# Altium integrated library TI Data Converters Digital to Analog Converter.IntLib: 1533 symbols (part 27 of 99)
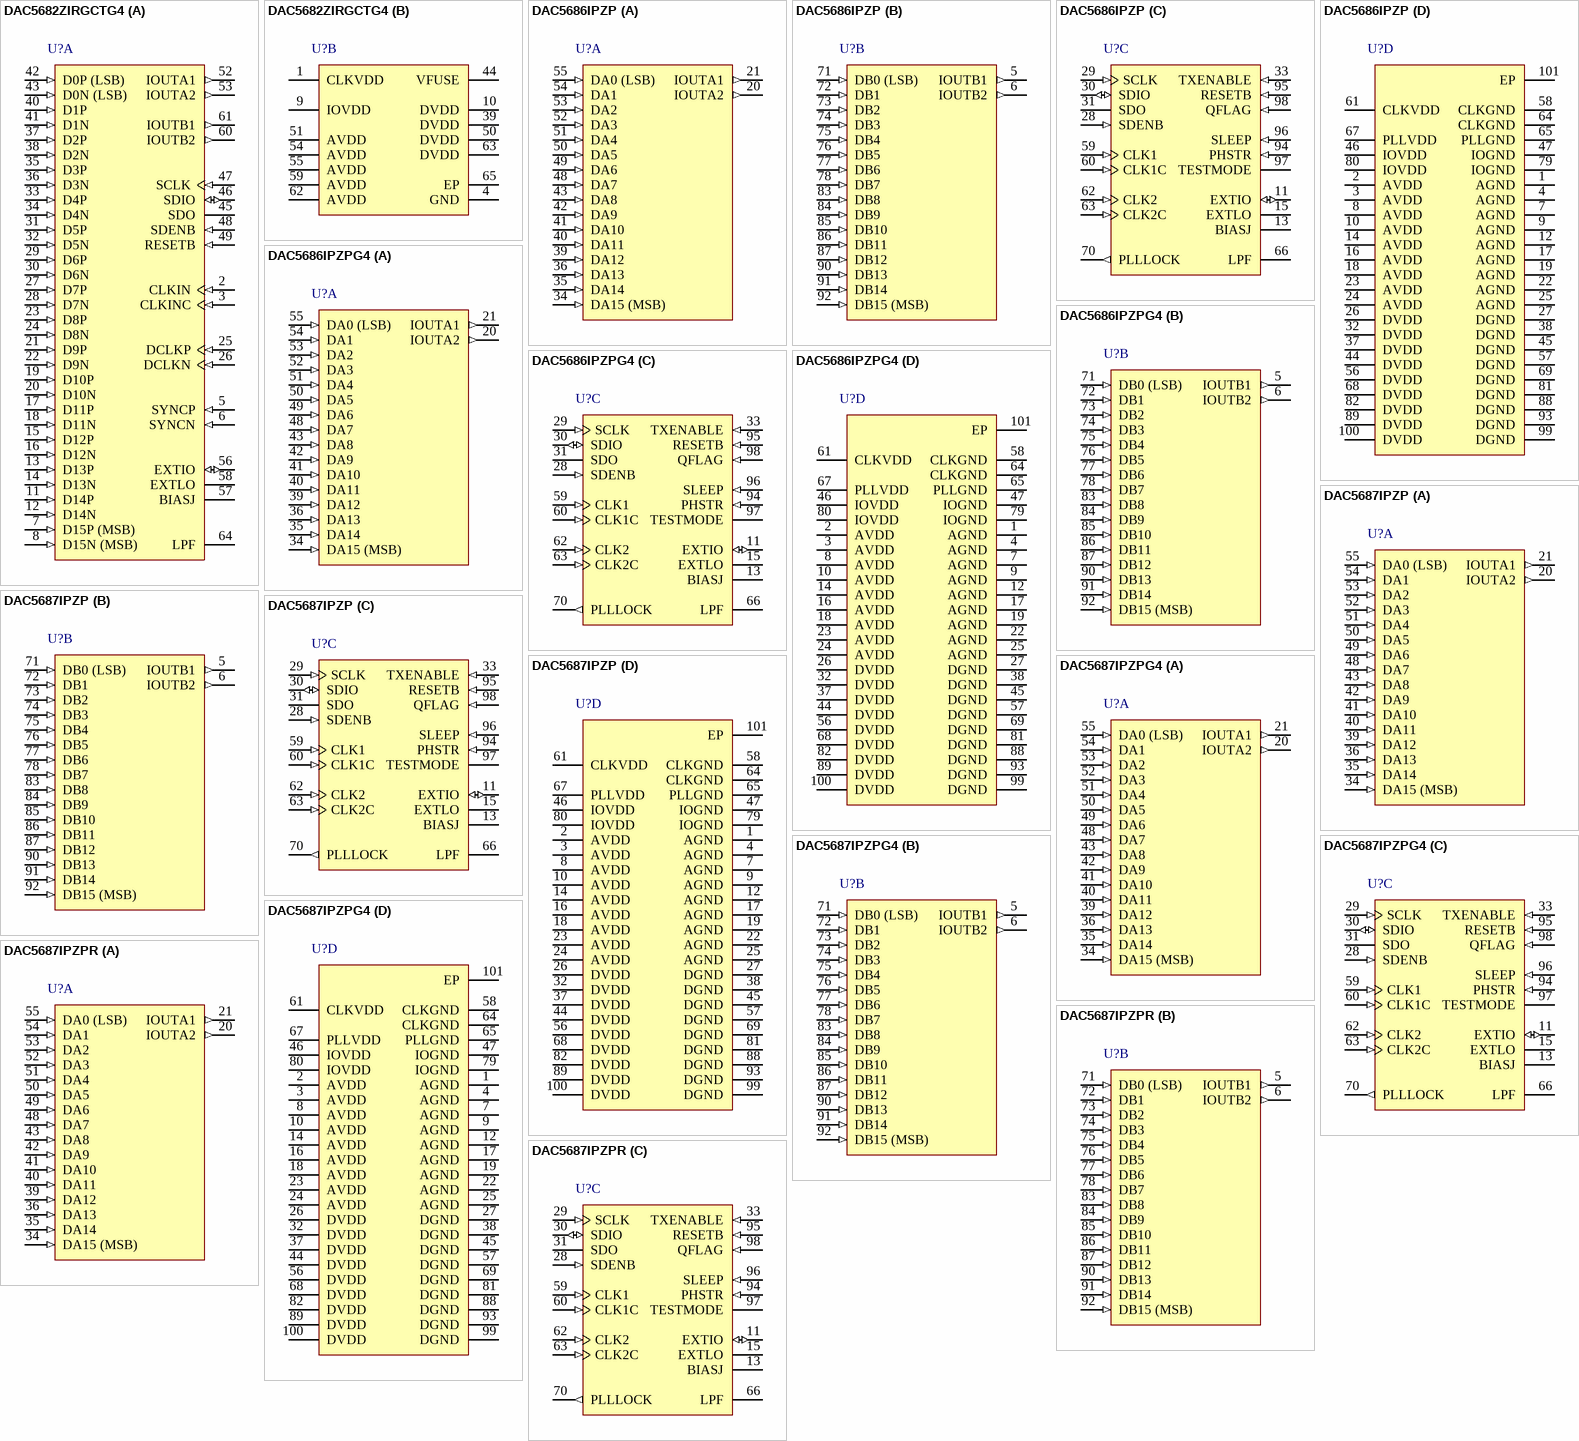
[diagram p99: symbols DAC5682ZIRGCTG4 to DAC5687IPZPR]

## DAC5687IPZPG4
designator U?
16-Bit, 500 MSPS 2 x- 8 x Interpolating Dual-Channel DAC, -40 to 85 degC, 100-pin QFP (PZP100), Green (RoHS & no Sb/Br); Manufacturer: Texas Instruments; PartNumber: DAC5687IPZPG4; DAC Channels: 2; Interface: Parallel CMOS; Power Consumption(Typ)(mW): 1410; Resolution(Bits): 16; Settling Time(us): 0.0104; SFDR(dB): 76; SNR(dB): 73; SubFamily: High Speed DAC (>10MSPS); DatasheetVersion: SLWS164E; PackageVersion: 4146929/C, 09/2011; PackageReference: PZP100-5445X5445TP; PackageDescription: 100-Lead, Plastic Flat Pack, Body Size 14 x 14 mm, Pitch 0.5 mm; Supplier 1: Digi-Key; Supplier Part Number 1: DAC5687IPZPG4-ND; Supplier 2: Newark; Supplier Part Number 2: 33K5127; Supplier 3: Mouser; Supplier Part Number 3: 595-DAC5687IPZPG4; Eco-Plan: Green (RoHS & no Sb/Br); Mounting Technology: Surface Mount; Code_JEDEC: MS-026; ComponentLink1Description: Manufacturer URL; ComponentLink1URL: http://www.ti.com/; ComponentLink2Description: Datasheet; ComponentLink2URL: http://www.ti.com/general/docs/lit/getliterature.tsp?genericPartNumber=DAC5687&fileType=pdf; ComponentLink3Description: Package Specification; ComponentLink3URL: http://www.ti.com/litv/pdf/mpqf053b
footprint TI-PZP100-5445X5445TP_N (QFP, 100-Leads, Body 14x14mm, Pitch 0.5mm, Thermal Pad 5.445x5.445mm, IPC Medium Density)
footprint TI-PZP100-5445X5445TP_L (QFP, 100-Leads, Body 14x14mm, Pitch 0.5mm, Thermal Pad 5.445x5.445mm, IPC High Density)
footprint TI-PZP100-5445X5445TP_M (QFP, 100-Leads, Body 14x14mm, Pitch 0.5mm, Thermal Pad 5.445x5.445mm, IPC Low Density)
part A pins: 20 IOUTA2 (out) "A-channel DAC complementary current output. Full scale when all input bits are set to 0", 21 IOUTA1 (out) "A-channel DAC current output. Full scale when all input bits are set to 1", 34 DA15 (MSB) (in) "A-channel data bits 0 through 15. DA15 is most significant data bit (MSB). DA0 is least significant data bit (LSB). Internal pulldown", 35 DA14 (in) "A-channel data bits 0 through 15. DA15 is most significant data bit (MSB). DA0 is least significant data bit (LSB). Internal pulldown", 36 DA13 (in) "A-channel data bits 0 through 15. DA15 is most significant data bit (MSB). DA0 is least significant data bit (LSB). Internal pulldown", 39 DA12 (in) "A-channel data bits 0 through 15. DA15 is most significant data bit (MSB). DA0 is least significant data bit (LSB). Internal pulldown", 40 DA11 (in) "A-channel data bits 0 through 15. DA15 is most significant data bit (MSB). DA0 is least significant data bit (LSB). Internal pulldown", 41 DA10 (in) "A-channel data bits 0 through 15. DA15 is most significant data bit (MSB). DA0 is least significant data bit (LSB). Internal pulldown", 42 DA9 (in) "A-channel data bits 0 through 15. DA15 is most significant data bit (MSB). DA0 is least significant data bit (LSB). Internal pulldown", 43 DA8 (in) "A-channel data bits 0 through 15. DA15 is most significant data bit (MSB). DA0 is least significant data bit (LSB). Internal pulldown", 48 DA7 (in) "A-channel data bits 0 through 15. DA15 is most significant data bit (MSB). DA0 is least significant data bit (LSB). Internal pulldown", 49 DA6 (in) "A-channel data bits 0 through 15. DA15 is most significant data bit (MSB). DA0 is least significant data bit (LSB). Internal pulldown", 50 DA5 (in) "A-channel data bits 0 through 15. DA15 is most significant data bit (MSB). DA0 is least significant data bit (LSB). Internal pulldown", 51 DA4 (in) "A-channel data bits 0 through 15. DA15 is most significant data bit (MSB). DA0 is least significant data bit (LSB). Internal pulldown", 52 DA3 (in) "A-channel data bits 0 through 15. DA15 is most significant data bit (MSB). DA0 is least significant data bit (LSB). Internal pulldown", 53 DA2 (in) "A-channel data bits 0 through 15. DA15 is most significant data bit (MSB). DA0 is least significant data bit (LSB). Internal pulldown", 54 DA1 (in) "A-channel data bits 0 through 15. DA15 is most significant data bit (MSB). DA0 is least significant data bit (LSB). Internal pulldown", 55 DA0 (LSB) (in) "A-channel data bits 0 through 15. DA15 is most significant data bit (MSB). DA0 is least significant data bit (LSB). Internal pulldown"
part B pins: 5 IOUTB1 (out) "B-channel DAC current output. Full scale when all input bits are set to 1", 6 IOUTB2 (out) "B-channel DAC complementary current output. Full scale when all input bits are set to 0", 71 DB0 (LSB) (in) "B-channel data bits 0 through 15. DB15 is most significant data bit (MSB). DB0 is least significant data bit (LSB). Internal pulldown Note: The order of the B data bus can be reversed by register rev_bbus.", 72 DB1 (in) "B-channel data bits 0 through 15. DB15 is most significant data bit (MSB). DB0 is least significant data bit (LSB). Internal pulldown Note: The order of the B data bus can be reversed by register rev_bbus.", 73 DB2 (in) "B-channel data bits 0 through 15. DB15 is most significant data bit (MSB). DB0 is least significant data bit (LSB). Internal pulldown Note: The order of the B data bus can be reversed by register rev_bbus.", 74 DB3 (in) "B-channel data bits 0 through 15. DB15 is most significant data bit (MSB). DB0 is least significant data bit (LSB). Internal pulldown Note: The order of the B data bus can be reversed by register rev_bbus.", 75 DB4 (in) "B-channel data bits 0 through 15. DB15 is most significant data bit (MSB). DB0 is least significant data bit (LSB). Internal pulldown Note: The order of the B data bus can be reversed by register rev_bbus.", 76 DB5 (in) "B-channel data bits 0 through 15. DB15 is most significant data bit (MSB). DB0 is least significant data bit (LSB). Internal pulldown Note: The order of the B data bus can be reversed by register rev_bbus.", 77 DB6 (in) "B-channel data bits 0 through 15. DB15 is most significant data bit (MSB). DB0 is least significant data bit (LSB). Internal pulldown Note: The order of the B data bus can be reversed by register rev_bbus.", 78 DB7 (in) "B-channel data bits 0 through 15. DB15 is most significant data bit (MSB). DB0 is least significant data bit (LSB). Internal pulldown Note: The order of the B data bus can be reversed by register rev_bbus.", 83 DB8 (in) "B-channel data bits 0 through 15. DB15 is most significant data bit (MSB). DB0 is least significant data bit (LSB). Internal pulldown Note: The order of the B data bus can be reversed by register rev_bbus.", 84 DB9 (in) "B-channel data bits 0 through 15. DB15 is most significant data bit (MSB). DB0 is least significant data bit (LSB). Internal pulldown Note: The order of the B data bus can be reversed by register rev_bbus.", 85 DB10 (in) "B-channel data bits 0 through 15. DB15 is most significant data bit (MSB). DB0 is least significant data bit (LSB). Internal pulldown Note: The order of the B data bus can be reversed by register rev_bbus.", 86 DB11 (in) "B-channel data bits 0 through 15. DB15 is most significant data bit (MSB). DB0 is least significant data bit (LSB). Internal pulldown Note: The order of the B data bus can be reversed by register rev_bbus.", 87 DB12 (in) "B-channel data bits 0 through 15. DB15 is most significant data bit (MSB). DB0 is least significant data bit (LSB). Internal pulldown Note: The order of the B data bus can be reversed by register rev_bbus.", 90 DB13 (in) "B-channel data bits 0 through 15. DB15 is most significant data bit (MSB). DB0 is least significant data bit (LSB). Internal pulldown Note: The order of the B data bus can be reversed by register rev_bbus.", 91 DB14 (in) "B-channel data bits 0 through 15. DB15 is most significant data bit (MSB). DB0 is least significant data bit (LSB). Internal pulldown Note: The order of the B data bus can be reversed by register rev_bbus.", 92 DB15 (MSB) (in) "B-channel data bits 0 through 15. DB15 is most significant data bit (MSB). DB0 is least significant data bit (LSB). Internal pulldown Note: The order of the B data bus can be reversed by register rev_bbus."
part C pins: 11 EXTIO (io) "Used as external reference input when internal reference is disabled (i.e., EXTLO connected to AVDD). Used as internal reference output when EXTLO = AGND, requires a 0.1-uF decoupling capacitor to AGND when used as reference (See Datasheet)", 13 BIASJ "Full-scale output current bias", 15 EXTLO "Internal reference ground. Connect to AVDD to disable the internal reference", 28 SDENB (in) "Active-low serial data enable, always an input to the DAC5686. Internal pulldown", 29 SCLK (in) "Serial interface clock. Internal pulldown", 30 SDIO (io) "Bidirectional serial-port data in the three-pin serial interface mode. Input-only serial data in the four-pin serial interface mode. Internal pulldown", 31 SDO (hiz) "High-impedance state (the pin is not used) in the three-pin serial interface mode. Serial-port output data in the four-pin serial interface mode.", 33 TXENABLE (in) "TxENABLE is used in interleaved mode. The rising edge of TxENABLE synchronizes the data of channels A and B. The first data after the rising edge of TxENABLE is treated as A data, while the next data is treated as B data and (See Datasheet)", 59 CLK1 (in) "External clock input; data clock input", 60 CLK1C (in) "Complementary external clock input; data clock input", 62 CLK2 (in) "External clock input; sample clock for the DAC (optional if PLL disabled)", 63 CLK2C (in) "Complementary external clock input; sample clock for the DAC (optional if PLL disabled)", 66 LPF "PLL loop filter connection. Can be left open or connected to GND if PLL is not used (PLLVDD = 0 V).", 70 PLLLOCK (out) "PLL lock status bit. In PLL clock mode, PLLLOCK is high when PLL is locked to the input clock. In external clock mode, PLLLOCK outputs the input rate clock.", 94 PHSTR (in) "The PHSTR pin has two functions. When the sync_phstr register is 0, a high on the PHSTR pin resets the NCO phase accumulator. When the sync_phstr register is 1, a PHSTR pin low-to-high transition sets the divided clock phase (See Datasheet)", 95 RESETB (in) "Resets the chip when low. Internal pullup", 96 SLEEP (in) "Asynchronous hardware power-down input. Active high. Internal pulldown", 97 TESTMODE "TESTMODE is DGND for the user", 98 QFLAG (in) "Used in the interleaved data input mode: When the qflag register bit is 1, the QFLAG pin is used as an input to identify the interleaved data sequence. QFLAG high identifies the data as channel B. Pin can be left open when (See Datasheet)"
part D pins: 1 AGND (power) "Analog ground return", 2 AVDD (power) "Analog supply voltage", 3 AVDD (power) "Analog supply voltage", 4 AGND (power) "Analog ground return", 7 AGND (power) "Analog ground return", 8 AVDD (power) "Analog supply voltage", 9 AGND (power) "Analog ground return", 10 AVDD (power) "Analog supply voltage", 12 AGND (power) "Analog ground return", 14 AVDD (power) "Analog supply voltage", 16 AVDD (power) "Analog supply voltage", 17 AGND (power) "Analog ground return", 18 AVDD (power) "Analog supply voltage", 19 AGND (power) "Analog ground return", 22 AGND (power) "Analog ground return", 23 AVDD (power) "Analog supply voltage", 24 AVDD (power) "Analog supply voltage", 25 AGND (power) "Analog ground return", 26 DVDD (power) "Digital supply voltage", 27 DGND (power) "Digital ground return", 32 DVDD (power) "Digital supply voltage", 37 DVDD (power) "Digital supply voltage", 38 DGND (power) "Digital ground return", 44 DVDD (power) "Digital supply voltage", 45 DGND (power) "Digital ground return", 46 IOVDD (power) "Digital I/O supply voltage", 47 IOGND (power) "Digital I/O ground return", 56 DVDD (power) "Digital supply voltage", 57 DGND (power) "Digital ground return", 58 CLKGND (power) "Ground return for internal clock buffer", 61 CLKVDD (power) "Internal clock buffer supply voltage", 64 CLKGND (power) "Ground return for internal clock buffer", 65 PLLGND (power) "Ground return for internal PLL", 67 PLLVDD (power) "PLL supply voltage. When PLLVDD is 0 V, the PLL is disabled.", 68 DVDD (power) "Digital supply voltage", 69 DGND (power) "Digital ground return", 79 IOGND (power) "Digital I/O ground return", 80 IOVDD (power) "Digital I/O supply voltage", 81 DGND (power) "Digital ground return", 82 DVDD (power) "Digital supply voltage", 88 DGND (power) "Digital ground return", 89 DVDD (power) "Digital supply voltage", 93 DGND (power) "Digital ground return", 99 DGND (power) "Digital ground return", 100 DVDD (power) "Digital supply voltage", 101 EP

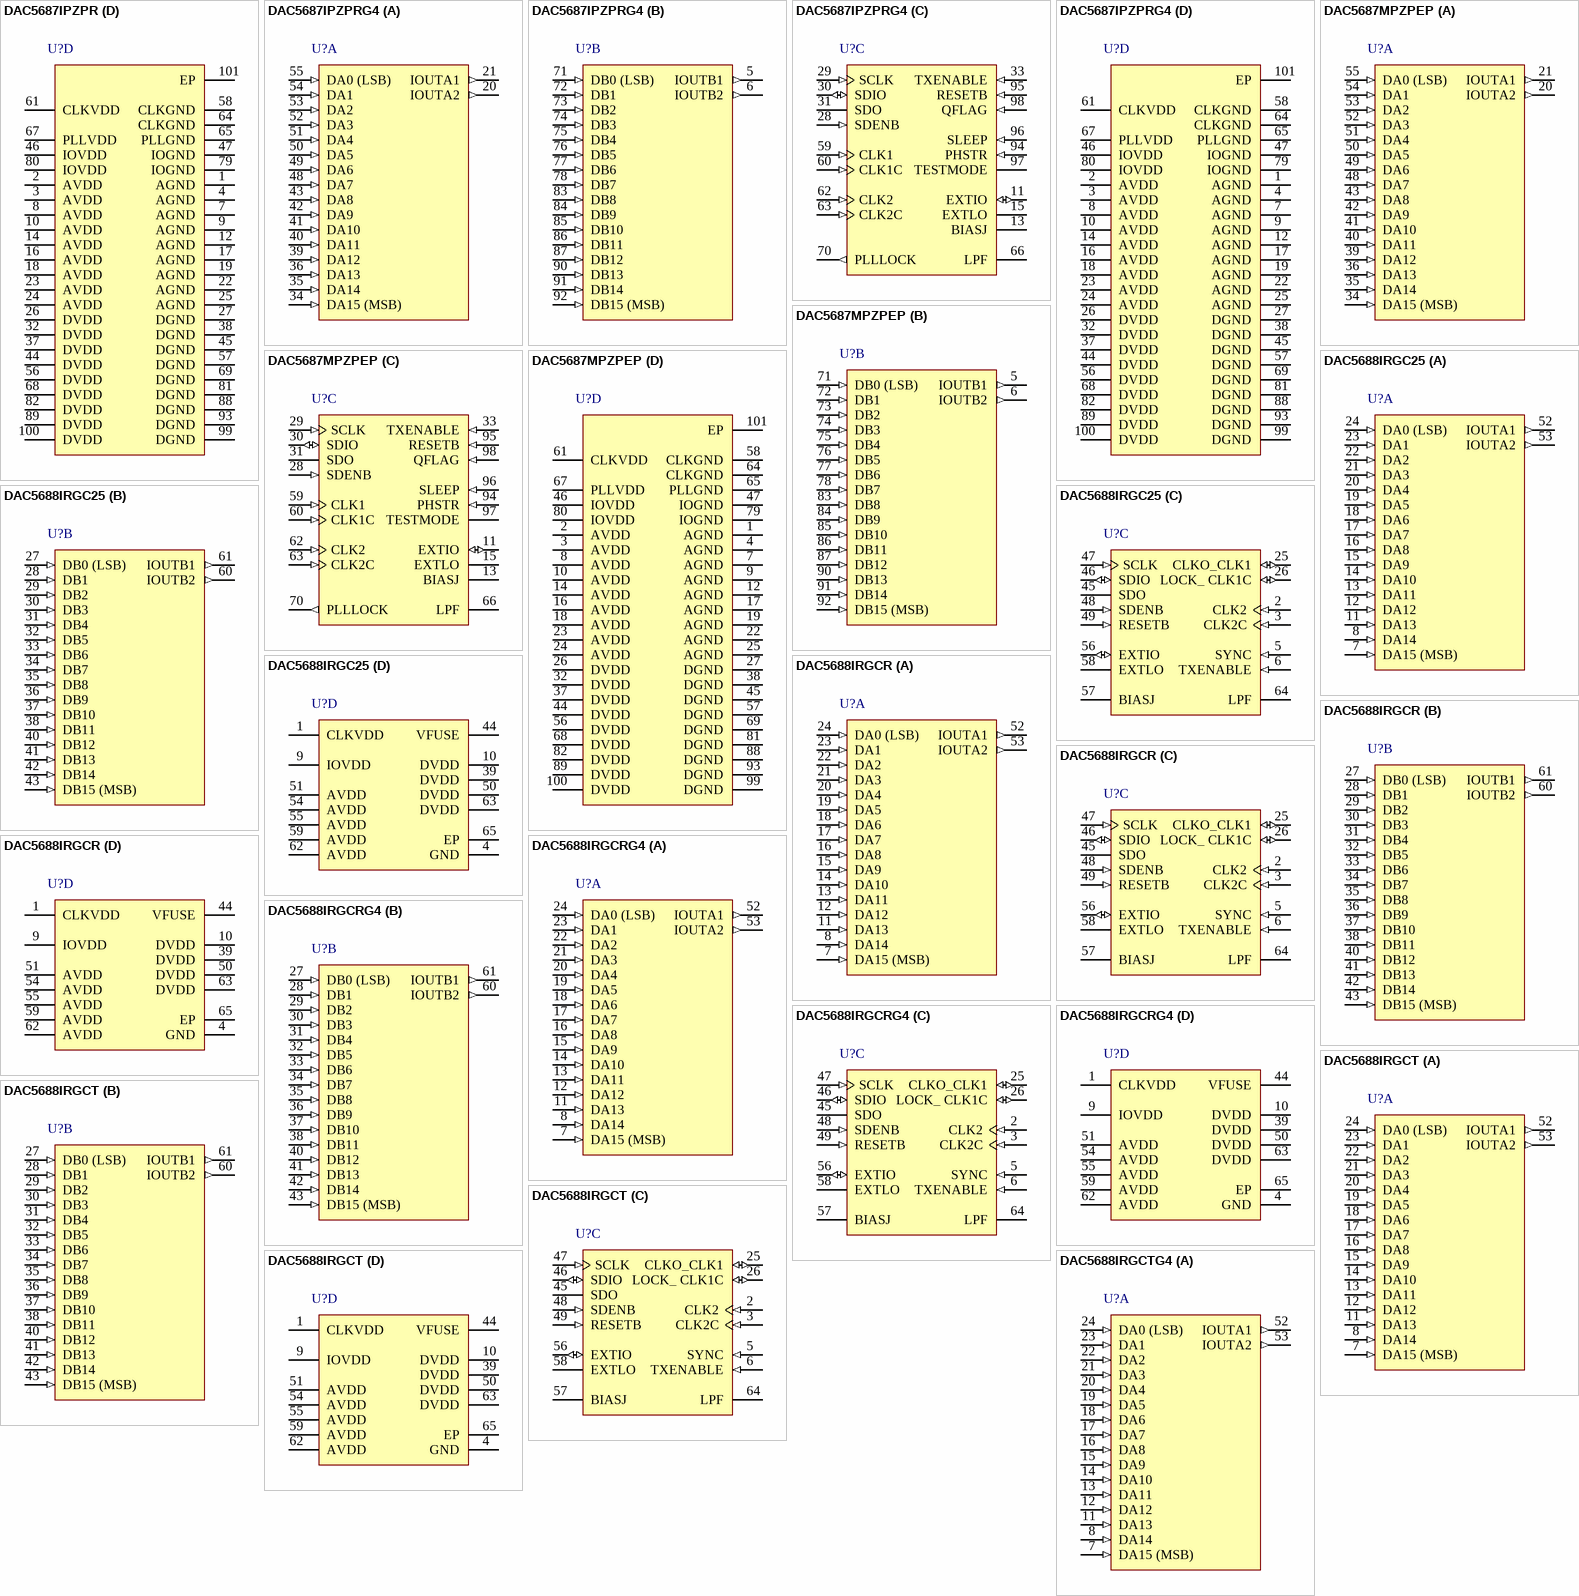
[diagram p21: symbols DAC5687IPZPR to DAC5688IRGCTG4]

## DAC5687IPZPR
designator U?
16-Bit, 500 MSPS 2 x- 8 x Interpolating Dual-Channel DAC, -40 to 85 degC, 100-pin QFP (PZP100), Green (RoHS & no Sb/Br); Manufacturer: Texas Instruments; PartNumber: DAC5687IPZPR; DAC Channels: 2; Interface: Parallel CMOS; Power Consumption(Typ)(mW): 1410; Resolution(Bits): 16; Settling Time(us): 0.0104; SFDR(dB): 76; SNR(dB): 73; SubFamily: High Speed DAC (>10MSPS); DatasheetVersion: SLWS164E; PackageVersion: 4146929/C, 09/2011; PackageReference: PZP100-5445X5445TP; PackageDescription: 100-Lead, Plastic Flat Pack, Body Size 14 x 14 mm, Pitch 0.5 mm; Supplier 1: Digi-Key; Supplier Part Number 1: DAC5687IPZPR-ND; Supplier 2: Newark; Supplier Part Number 2: 73K7712; Supplier 3: Mouser; Supplier Part Number 3: 595-DAC5687IPZPR; Eco-Plan: Green (RoHS & no Sb/Br); Mounting Technology: Surface Mount; Code_JEDEC: MS-026; ComponentLink1Description: Manufacturer URL; ComponentLink1URL: http://www.ti.com/; ComponentLink2Description: Datasheet; ComponentLink2URL: http://www.ti.com/general/docs/lit/getliterature.tsp?genericPartNumber=DAC5687&fileType=pdf; ComponentLink3Description: Package Specification; ComponentLink3URL: http://www.ti.com/litv/pdf/mpqf053b
footprint TI-PZP100-5445X5445TP_N (QFP, 100-Leads, Body 14x14mm, Pitch 0.5mm, Thermal Pad 5.445x5.445mm, IPC Medium Density)
footprint TI-PZP100-5445X5445TP_L (QFP, 100-Leads, Body 14x14mm, Pitch 0.5mm, Thermal Pad 5.445x5.445mm, IPC High Density)
footprint TI-PZP100-5445X5445TP_M (QFP, 100-Leads, Body 14x14mm, Pitch 0.5mm, Thermal Pad 5.445x5.445mm, IPC Low Density)
part A pins: 20 IOUTA2 (out) "A-channel DAC complementary current output. Full scale when all input bits are set to 0", 21 IOUTA1 (out) "A-channel DAC current output. Full scale when all input bits are set to 1", 34 DA15 (MSB) (in) "A-channel data bits 0 through 15. DA15 is most significant data bit (MSB). DA0 is least significant data bit (LSB). Internal pulldown", 35 DA14 (in) "A-channel data bits 0 through 15. DA15 is most significant data bit (MSB). DA0 is least significant data bit (LSB). Internal pulldown", 36 DA13 (in) "A-channel data bits 0 through 15. DA15 is most significant data bit (MSB). DA0 is least significant data bit (LSB). Internal pulldown", 39 DA12 (in) "A-channel data bits 0 through 15. DA15 is most significant data bit (MSB). DA0 is least significant data bit (LSB). Internal pulldown", 40 DA11 (in) "A-channel data bits 0 through 15. DA15 is most significant data bit (MSB). DA0 is least significant data bit (LSB). Internal pulldown", 41 DA10 (in) "A-channel data bits 0 through 15. DA15 is most significant data bit (MSB). DA0 is least significant data bit (LSB). Internal pulldown", 42 DA9 (in) "A-channel data bits 0 through 15. DA15 is most significant data bit (MSB). DA0 is least significant data bit (LSB). Internal pulldown", 43 DA8 (in) "A-channel data bits 0 through 15. DA15 is most significant data bit (MSB). DA0 is least significant data bit (LSB). Internal pulldown", 48 DA7 (in) "A-channel data bits 0 through 15. DA15 is most significant data bit (MSB). DA0 is least significant data bit (LSB). Internal pulldown", 49 DA6 (in) "A-channel data bits 0 through 15. DA15 is most significant data bit (MSB). DA0 is least significant data bit (LSB). Internal pulldown", 50 DA5 (in) "A-channel data bits 0 through 15. DA15 is most significant data bit (MSB). DA0 is least significant data bit (LSB). Internal pulldown", 51 DA4 (in) "A-channel data bits 0 through 15. DA15 is most significant data bit (MSB). DA0 is least significant data bit (LSB). Internal pulldown", 52 DA3 (in) "A-channel data bits 0 through 15. DA15 is most significant data bit (MSB). DA0 is least significant data bit (LSB). Internal pulldown", 53 DA2 (in) "A-channel data bits 0 through 15. DA15 is most significant data bit (MSB). DA0 is least significant data bit (LSB). Internal pulldown", 54 DA1 (in) "A-channel data bits 0 through 15. DA15 is most significant data bit (MSB). DA0 is least significant data bit (LSB). Internal pulldown", 55 DA0 (LSB) (in) "A-channel data bits 0 through 15. DA15 is most significant data bit (MSB). DA0 is least significant data bit (LSB). Internal pulldown"
part B pins: 5 IOUTB1 (out) "B-channel DAC current output. Full scale when all input bits are set to 1", 6 IOUTB2 (out) "B-channel DAC complementary current output. Full scale when all input bits are set to 0", 71 DB0 (LSB) (in) "B-channel data bits 0 through 15. DB15 is most significant data bit (MSB). DB0 is least significant data bit (LSB). Internal pulldown Note: The order of the B data bus can be reversed by register rev_bbus.", 72 DB1 (in) "B-channel data bits 0 through 15. DB15 is most significant data bit (MSB). DB0 is least significant data bit (LSB). Internal pulldown Note: The order of the B data bus can be reversed by register rev_bbus.", 73 DB2 (in) "B-channel data bits 0 through 15. DB15 is most significant data bit (MSB). DB0 is least significant data bit (LSB). Internal pulldown Note: The order of the B data bus can be reversed by register rev_bbus.", 74 DB3 (in) "B-channel data bits 0 through 15. DB15 is most significant data bit (MSB). DB0 is least significant data bit (LSB). Internal pulldown Note: The order of the B data bus can be reversed by register rev_bbus.", 75 DB4 (in) "B-channel data bits 0 through 15. DB15 is most significant data bit (MSB). DB0 is least significant data bit (LSB). Internal pulldown Note: The order of the B data bus can be reversed by register rev_bbus.", 76 DB5 (in) "B-channel data bits 0 through 15. DB15 is most significant data bit (MSB). DB0 is least significant data bit (LSB). Internal pulldown Note: The order of the B data bus can be reversed by register rev_bbus.", 77 DB6 (in) "B-channel data bits 0 through 15. DB15 is most significant data bit (MSB). DB0 is least significant data bit (LSB). Internal pulldown Note: The order of the B data bus can be reversed by register rev_bbus.", 78 DB7 (in) "B-channel data bits 0 through 15. DB15 is most significant data bit (MSB). DB0 is least significant data bit (LSB). Internal pulldown Note: The order of the B data bus can be reversed by register rev_bbus.", 83 DB8 (in) "B-channel data bits 0 through 15. DB15 is most significant data bit (MSB). DB0 is least significant data bit (LSB). Internal pulldown Note: The order of the B data bus can be reversed by register rev_bbus.", 84 DB9 (in) "B-channel data bits 0 through 15. DB15 is most significant data bit (MSB). DB0 is least significant data bit (LSB). Internal pulldown Note: The order of the B data bus can be reversed by register rev_bbus.", 85 DB10 (in) "B-channel data bits 0 through 15. DB15 is most significant data bit (MSB). DB0 is least significant data bit (LSB). Internal pulldown Note: The order of the B data bus can be reversed by register rev_bbus.", 86 DB11 (in) "B-channel data bits 0 through 15. DB15 is most significant data bit (MSB). DB0 is least significant data bit (LSB). Internal pulldown Note: The order of the B data bus can be reversed by register rev_bbus.", 87 DB12 (in) "B-channel data bits 0 through 15. DB15 is most significant data bit (MSB). DB0 is least significant data bit (LSB). Internal pulldown Note: The order of the B data bus can be reversed by register rev_bbus.", 90 DB13 (in) "B-channel data bits 0 through 15. DB15 is most significant data bit (MSB). DB0 is least significant data bit (LSB). Internal pulldown Note: The order of the B data bus can be reversed by register rev_bbus.", 91 DB14 (in) "B-channel data bits 0 through 15. DB15 is most significant data bit (MSB). DB0 is least significant data bit (LSB). Internal pulldown Note: The order of the B data bus can be reversed by register rev_bbus.", 92 DB15 (MSB) (in) "B-channel data bits 0 through 15. DB15 is most significant data bit (MSB). DB0 is least significant data bit (LSB). Internal pulldown Note: The order of the B data bus can be reversed by register rev_bbus."
part C pins: 11 EXTIO (io) "Used as external reference input when internal reference is disabled (i.e., EXTLO connected to AVDD). Used as internal reference output when EXTLO = AGND, requires a 0.1-uF decoupling capacitor to AGND when used as reference (See Datasheet)", 13 BIASJ "Full-scale output current bias", 15 EXTLO "Internal reference ground. Connect to AVDD to disable the internal reference", 28 SDENB (in) "Active-low serial data enable, always an input to the DAC5686. Internal pulldown", 29 SCLK (in) "Serial interface clock. Internal pulldown", 30 SDIO (io) "Bidirectional serial-port data in the three-pin serial interface mode. Input-only serial data in the four-pin serial interface mode. Internal pulldown", 31 SDO (hiz) "High-impedance state (the pin is not used) in the three-pin serial interface mode. Serial-port output data in the four-pin serial interface mode.", 33 TXENABLE (in) "TxENABLE is used in interleaved mode. The rising edge of TxENABLE synchronizes the data of channels A and B. The first data after the rising edge of TxENABLE is treated as A data, while the next data is treated as B data and (See Datasheet)", 59 CLK1 (in) "External clock input; data clock input", 60 CLK1C (in) "Complementary external clock input; data clock input", 62 CLK2 (in) "External clock input; sample clock for the DAC (optional if PLL disabled)", 63 CLK2C (in) "Complementary external clock input; sample clock for the DAC (optional if PLL disabled)", 66 LPF "PLL loop filter connection. Can be left open or connected to GND if PLL is not used (PLLVDD = 0 V).", 70 PLLLOCK (out) "PLL lock status bit. In PLL clock mode, PLLLOCK is high when PLL is locked to the input clock. In external clock mode, PLLLOCK outputs the input rate clock.", 94 PHSTR (in) "The PHSTR pin has two functions. When the sync_phstr register is 0, a high on the PHSTR pin resets the NCO phase accumulator. When the sync_phstr register is 1, a PHSTR pin low-to-high transition sets the divided clock phase (See Datasheet)", 95 RESETB (in) "Resets the chip when low. Internal pullup", 96 SLEEP (in) "Asynchronous hardware power-down input. Active high. Internal pulldown", 97 TESTMODE "TESTMODE is DGND for the user", 98 QFLAG (in) "Used in the interleaved data input mode: When the qflag register bit is 1, the QFLAG pin is used as an input to identify the interleaved data sequence. QFLAG high identifies the data as channel B. Pin can be left open when (See Datasheet)"
part D pins: 1 AGND (power) "Analog ground return", 2 AVDD (power) "Analog supply voltage", 3 AVDD (power) "Analog supply voltage", 4 AGND (power) "Analog ground return", 7 AGND (power) "Analog ground return", 8 AVDD (power) "Analog supply voltage", 9 AGND (power) "Analog ground return", 10 AVDD (power) "Analog supply voltage", 12 AGND (power) "Analog ground return", 14 AVDD (power) "Analog supply voltage", 16 AVDD (power) "Analog supply voltage", 17 AGND (power) "Analog ground return", 18 AVDD (power) "Analog supply voltage", 19 AGND (power) "Analog ground return", 22 AGND (power) "Analog ground return", 23 AVDD (power) "Analog supply voltage", 24 AVDD (power) "Analog supply voltage", 25 AGND (power) "Analog ground return", 26 DVDD (power) "Digital supply voltage", 27 DGND (power) "Digital ground return", 32 DVDD (power) "Digital supply voltage", 37 DVDD (power) "Digital supply voltage", 38 DGND (power) "Digital ground return", 44 DVDD (power) "Digital supply voltage", 45 DGND (power) "Digital ground return", 46 IOVDD (power) "Digital I/O supply voltage", 47 IOGND (power) "Digital I/O ground return", 56 DVDD (power) "Digital supply voltage", 57 DGND (power) "Digital ground return", 58 CLKGND (power) "Ground return for internal clock buffer", 61 CLKVDD (power) "Internal clock buffer supply voltage", 64 CLKGND (power) "Ground return for internal clock buffer", 65 PLLGND (power) "Ground return for internal PLL", 67 PLLVDD (power) "PLL supply voltage. When PLLVDD is 0 V, the PLL is disabled.", 68 DVDD (power) "Digital supply voltage", 69 DGND (power) "Digital ground return", 79 IOGND (power) "Digital I/O ground return", 80 IOVDD (power) "Digital I/O supply voltage", 81 DGND (power) "Digital ground return", 82 DVDD (power) "Digital supply voltage", 88 DGND (power) "Digital ground return", 89 DVDD (power) "Digital supply voltage", 93 DGND (power) "Digital ground return", 99 DGND (power) "Digital ground return", 100 DVDD (power) "Digital supply voltage", 101 EP

## DAC5687IPZPRG4
designator U?
16-Bit, 500 MSPS 2 x- 8 x Interpolating Dual-Channel DAC, -40 to 85 degC, 100-pin QFP (PZP100), Green (RoHS & no Sb/Br); Manufacturer: Texas Instruments; PartNumber: DAC5687IPZPRG4; DAC Channels: 2; Interface: Parallel CMOS; Power Consumption(Typ)(mW): 1410; Resolution(Bits): 16; Settling Time(us): 0.0104; SFDR(dB): 76; SNR(dB): 73; SubFamily: High Speed DAC (>10MSPS); DatasheetVersion: SLWS164E; PackageVersion: 4146929/C, 09/2011; PackageReference: PZP100-5445X5445TP; PackageDescription: 100-Lead, Plastic Flat Pack, Body Size 14 x 14 mm, Pitch 0.5 mm; Supplier 1: Digi-Key; Supplier Part Number 1: DAC5687IPZPRG4-ND; Supplier 2: Newark; Supplier Part Number 2: 80K1418; Supplier 3: Mouser; Supplier Part Number 3: 595-DAC5687IPZPRG4; Eco-Plan: Green (RoHS & no Sb/Br); Mounting Technology: Surface Mount; Code_JEDEC: MS-026; ComponentLink1Description: Manufacturer URL; ComponentLink1URL: http://www.ti.com/; ComponentLink2Description: Datasheet; ComponentLink2URL: http://www.ti.com/general/docs/lit/getliterature.tsp?genericPartNumber=DAC5687&fileType=pdf; ComponentLink3Description: Package Specification; ComponentLink3URL: http://www.ti.com/litv/pdf/mpqf053b
footprint TI-PZP100-5445X5445TP_N (QFP, 100-Leads, Body 14x14mm, Pitch 0.5mm, Thermal Pad 5.445x5.445mm, IPC Medium Density)
footprint TI-PZP100-5445X5445TP_L (QFP, 100-Leads, Body 14x14mm, Pitch 0.5mm, Thermal Pad 5.445x5.445mm, IPC High Density)
footprint TI-PZP100-5445X5445TP_M (QFP, 100-Leads, Body 14x14mm, Pitch 0.5mm, Thermal Pad 5.445x5.445mm, IPC Low Density)
part A pins: 20 IOUTA2 (out) "A-channel DAC complementary current output. Full scale when all input bits are set to 0", 21 IOUTA1 (out) "A-channel DAC current output. Full scale when all input bits are set to 1", 34 DA15 (MSB) (in) "A-channel data bits 0 through 15. DA15 is most significant data bit (MSB). DA0 is least significant data bit (LSB). Internal pulldown", 35 DA14 (in) "A-channel data bits 0 through 15. DA15 is most significant data bit (MSB). DA0 is least significant data bit (LSB). Internal pulldown", 36 DA13 (in) "A-channel data bits 0 through 15. DA15 is most significant data bit (MSB). DA0 is least significant data bit (LSB). Internal pulldown", 39 DA12 (in) "A-channel data bits 0 through 15. DA15 is most significant data bit (MSB). DA0 is least significant data bit (LSB). Internal pulldown", 40 DA11 (in) "A-channel data bits 0 through 15. DA15 is most significant data bit (MSB). DA0 is least significant data bit (LSB). Internal pulldown", 41 DA10 (in) "A-channel data bits 0 through 15. DA15 is most significant data bit (MSB). DA0 is least significant data bit (LSB). Internal pulldown", 42 DA9 (in) "A-channel data bits 0 through 15. DA15 is most significant data bit (MSB). DA0 is least significant data bit (LSB). Internal pulldown", 43 DA8 (in) "A-channel data bits 0 through 15. DA15 is most significant data bit (MSB). DA0 is least significant data bit (LSB). Internal pulldown", 48 DA7 (in) "A-channel data bits 0 through 15. DA15 is most significant data bit (MSB). DA0 is least significant data bit (LSB). Internal pulldown", 49 DA6 (in) "A-channel data bits 0 through 15. DA15 is most significant data bit (MSB). DA0 is least significant data bit (LSB). Internal pulldown", 50 DA5 (in) "A-channel data bits 0 through 15. DA15 is most significant data bit (MSB). DA0 is least significant data bit (LSB). Internal pulldown", 51 DA4 (in) "A-channel data bits 0 through 15. DA15 is most significant data bit (MSB). DA0 is least significant data bit (LSB). Internal pulldown", 52 DA3 (in) "A-channel data bits 0 through 15. DA15 is most significant data bit (MSB). DA0 is least significant data bit (LSB). Internal pulldown", 53 DA2 (in) "A-channel data bits 0 through 15. DA15 is most significant data bit (MSB). DA0 is least significant data bit (LSB). Internal pulldown", 54 DA1 (in) "A-channel data bits 0 through 15. DA15 is most significant data bit (MSB). DA0 is least significant data bit (LSB). Internal pulldown", 55 DA0 (LSB) (in) "A-channel data bits 0 through 15. DA15 is most significant data bit (MSB). DA0 is least significant data bit (LSB). Internal pulldown"
part B pins: 5 IOUTB1 (out) "B-channel DAC current output. Full scale when all input bits are set to 1", 6 IOUTB2 (out) "B-channel DAC complementary current output. Full scale when all input bits are set to 0", 71 DB0 (LSB) (in) "B-channel data bits 0 through 15. DB15 is most significant data bit (MSB). DB0 is least significant data bit (LSB). Internal pulldown Note: The order of the B data bus can be reversed by register rev_bbus.", 72 DB1 (in) "B-channel data bits 0 through 15. DB15 is most significant data bit (MSB). DB0 is least significant data bit (LSB). Internal pulldown Note: The order of the B data bus can be reversed by register rev_bbus.", 73 DB2 (in) "B-channel data bits 0 through 15. DB15 is most significant data bit (MSB). DB0 is least significant data bit (LSB). Internal pulldown Note: The order of the B data bus can be reversed by register rev_bbus.", 74 DB3 (in) "B-channel data bits 0 through 15. DB15 is most significant data bit (MSB). DB0 is least significant data bit (LSB). Internal pulldown Note: The order of the B data bus can be reversed by register rev_bbus.", 75 DB4 (in) "B-channel data bits 0 through 15. DB15 is most significant data bit (MSB). DB0 is least significant data bit (LSB). Internal pulldown Note: The order of the B data bus can be reversed by register rev_bbus.", 76 DB5 (in) "B-channel data bits 0 through 15. DB15 is most significant data bit (MSB). DB0 is least significant data bit (LSB). Internal pulldown Note: The order of the B data bus can be reversed by register rev_bbus.", 77 DB6 (in) "B-channel data bits 0 through 15. DB15 is most significant data bit (MSB). DB0 is least significant data bit (LSB). Internal pulldown Note: The order of the B data bus can be reversed by register rev_bbus.", 78 DB7 (in) "B-channel data bits 0 through 15. DB15 is most significant data bit (MSB). DB0 is least significant data bit (LSB). Internal pulldown Note: The order of the B data bus can be reversed by register rev_bbus.", 83 DB8 (in) "B-channel data bits 0 through 15. DB15 is most significant data bit (MSB). DB0 is least significant data bit (LSB). Internal pulldown Note: The order of the B data bus can be reversed by register rev_bbus.", 84 DB9 (in) "B-channel data bits 0 through 15. DB15 is most significant data bit (MSB). DB0 is least significant data bit (LSB). Internal pulldown Note: The order of the B data bus can be reversed by register rev_bbus.", 85 DB10 (in) "B-channel data bits 0 through 15. DB15 is most significant data bit (MSB). DB0 is least significant data bit (LSB). Internal pulldown Note: The order of the B data bus can be reversed by register rev_bbus.", 86 DB11 (in) "B-channel data bits 0 through 15. DB15 is most significant data bit (MSB). DB0 is least significant data bit (LSB). Internal pulldown Note: The order of the B data bus can be reversed by register rev_bbus.", 87 DB12 (in) "B-channel data bits 0 through 15. DB15 is most significant data bit (MSB). DB0 is least significant data bit (LSB). Internal pulldown Note: The order of the B data bus can be reversed by register rev_bbus.", 90 DB13 (in) "B-channel data bits 0 through 15. DB15 is most significant data bit (MSB). DB0 is least significant data bit (LSB). Internal pulldown Note: The order of the B data bus can be reversed by register rev_bbus.", 91 DB14 (in) "B-channel data bits 0 through 15. DB15 is most significant data bit (MSB). DB0 is least significant data bit (LSB). Internal pulldown Note: The order of the B data bus can be reversed by register rev_bbus.", 92 DB15 (MSB) (in) "B-channel data bits 0 through 15. DB15 is most significant data bit (MSB). DB0 is least significant data bit (LSB). Internal pulldown Note: The order of the B data bus can be reversed by register rev_bbus."
part C pins: 11 EXTIO (io) "Used as external reference input when internal reference is disabled (i.e., EXTLO connected to AVDD). Used as internal reference output when EXTLO = AGND, requires a 0.1-uF decoupling capacitor to AGND when used as reference (See Datasheet)", 13 BIASJ "Full-scale output current bias", 15 EXTLO "Internal reference ground. Connect to AVDD to disable the internal reference", 28 SDENB (in) "Active-low serial data enable, always an input to the DAC5686. Internal pulldown", 29 SCLK (in) "Serial interface clock. Internal pulldown", 30 SDIO (io) "Bidirectional serial-port data in the three-pin serial interface mode. Input-only serial data in the four-pin serial interface mode. Internal pulldown", 31 SDO (hiz) "High-impedance state (the pin is not used) in the three-pin serial interface mode. Serial-port output data in the four-pin serial interface mode.", 33 TXENABLE (in) "TxENABLE is used in interleaved mode. The rising edge of TxENABLE synchronizes the data of channels A and B. The first data after the rising edge of TxENABLE is treated as A data, while the next data is treated as B data and (See Datasheet)", 59 CLK1 (in) "External clock input; data clock input", 60 CLK1C (in) "Complementary external clock input; data clock input", 62 CLK2 (in) "External clock input; sample clock for the DAC (optional if PLL disabled)", 63 CLK2C (in) "Complementary external clock input; sample clock for the DAC (optional if PLL disabled)", 66 LPF "PLL loop filter connection. Can be left open or connected to GND if PLL is not used (PLLVDD = 0 V).", 70 PLLLOCK (out) "PLL lock status bit. In PLL clock mode, PLLLOCK is high when PLL is locked to the input clock. In external clock mode, PLLLOCK outputs the input rate clock.", 94 PHSTR (in) "The PHSTR pin has two functions. When the sync_phstr register is 0, a high on the PHSTR pin resets the NCO phase accumulator. When the sync_phstr register is 1, a PHSTR pin low-to-high transition sets the divided clock phase (See Datasheet)", 95 RESETB (in) "Resets the chip when low. Internal pullup", 96 SLEEP (in) "Asynchronous hardware power-down input. Active high. Internal pulldown", 97 TESTMODE "TESTMODE is DGND for the user", 98 QFLAG (in) "Used in the interleaved data input mode: When the qflag register bit is 1, the QFLAG pin is used as an input to identify the interleaved data sequence. QFLAG high identifies the data as channel B. Pin can be left open when (See Datasheet)"
part D pins: 1 AGND (power) "Analog ground return", 2 AVDD (power) "Analog supply voltage", 3 AVDD (power) "Analog supply voltage", 4 AGND (power) "Analog ground return", 7 AGND (power) "Analog ground return", 8 AVDD (power) "Analog supply voltage", 9 AGND (power) "Analog ground return", 10 AVDD (power) "Analog supply voltage", 12 AGND (power) "Analog ground return", 14 AVDD (power) "Analog supply voltage", 16 AVDD (power) "Analog supply voltage", 17 AGND (power) "Analog ground return", 18 AVDD (power) "Analog supply voltage", 19 AGND (power) "Analog ground return", 22 AGND (power) "Analog ground return", 23 AVDD (power) "Analog supply voltage", 24 AVDD (power) "Analog supply voltage", 25 AGND (power) "Analog ground return", 26 DVDD (power) "Digital supply voltage", 27 DGND (power) "Digital ground return", 32 DVDD (power) "Digital supply voltage", 37 DVDD (power) "Digital supply voltage", 38 DGND (power) "Digital ground return", 44 DVDD (power) "Digital supply voltage", 45 DGND (power) "Digital ground return", 46 IOVDD (power) "Digital I/O supply voltage", 47 IOGND (power) "Digital I/O ground return", 56 DVDD (power) "Digital supply voltage", 57 DGND (power) "Digital ground return", 58 CLKGND (power) "Ground return for internal clock buffer", 61 CLKVDD (power) "Internal clock buffer supply voltage", 64 CLKGND (power) "Ground return for internal clock buffer", 65 PLLGND (power) "Ground return for internal PLL", 67 PLLVDD (power) "PLL supply voltage. When PLLVDD is 0 V, the PLL is disabled.", 68 DVDD (power) "Digital supply voltage", 69 DGND (power) "Digital ground return", 79 IOGND (power) "Digital I/O ground return", 80 IOVDD (power) "Digital I/O supply voltage", 81 DGND (power) "Digital ground return", 82 DVDD (power) "Digital supply voltage", 88 DGND (power) "Digital ground return", 89 DVDD (power) "Digital supply voltage", 93 DGND (power) "Digital ground return", 99 DGND (power) "Digital ground return", 100 DVDD (power) "Digital supply voltage", 101 EP

## DAC5687MPZPEP
designator U?
Enhanced Product 16-Bit 500 MSPS 2 x - 8 x Interpolating Dual-Channel DAC, -55 to 125 degC, 100-pin QFP (PZP100), Green (RoHS & no Sb/Br); Manufacturer: Texas Instruments; PartNumber: DAC5687MPZPEP; DAC Channels: 2; Interface: Parallel CMOS; Power Consumption(Typ)(mW): 1410; Resolution(Bits): 16; Settling Time(us): 0.0104; SFDR(dB): 77; SNR(dB): 73; SubFamily: High Speed DAC (>10MSPS); DatasheetVersion: SGLS333; PackageVersion: 4146929/C, 09/2011; PackageReference: PZP100-5445X5445TP; PackageDescription: 100-Lead, Plastic Flat Pack, Body Size 14 x 14 mm, Pitch 0.5 mm; Supplier 1: Mouser; Supplier Part Number 1: 595-DAC5687MPZPEP; Eco-Plan: Green (RoHS & no Sb/Br); Mounting Technology: Surface Mount; Code_JEDEC: MS-026; ComponentLink1Description: Manufacturer URL; ComponentLink1URL: http://www.ti.com/; ComponentLink2Description: Datasheet; ComponentLink2URL: http://www.ti.com/general/docs/lit/getliterature.tsp?genericPartNumber=DAC5687-EP&fileType=pdf; ComponentLink3Description: Package Specification; ComponentLink3URL: http://www.ti.com/litv/pdf/mpqf053b
footprint TI-PZP100-5445X5445TP_N (QFP, 100-Leads, Body 14x14mm, Pitch 0.5mm, Thermal Pad 5.445x5.445mm, IPC Medium Density)
footprint TI-PZP100-5445X5445TP_L (QFP, 100-Leads, Body 14x14mm, Pitch 0.5mm, Thermal Pad 5.445x5.445mm, IPC High Density)
footprint TI-PZP100-5445X5445TP_M (QFP, 100-Leads, Body 14x14mm, Pitch 0.5mm, Thermal Pad 5.445x5.445mm, IPC Low Density)
part A pins: 20 IOUTA2 (out) "A-channel DAC complementary current output. Full scale when all input bits are set to 0", 21 IOUTA1 (out) "A-channel DAC current output. Full scale when all input bits are set to 1", 34 DA15 (MSB) (in) "A-channel data bits 0 through 15. DA15 is most significant data bit (MSB). DA0 is least significant data bit (LSB). Internal pulldown", 35 DA14 (in) "A-channel data bits 0 through 15. DA15 is most significant data bit (MSB). DA0 is least significant data bit (LSB). Internal pulldown", 36 DA13 (in) "A-channel data bits 0 through 15. DA15 is most significant data bit (MSB). DA0 is least significant data bit (LSB). Internal pulldown", 39 DA12 (in) "A-channel data bits 0 through 15. DA15 is most significant data bit (MSB). DA0 is least significant data bit (LSB). Internal pulldown", 40 DA11 (in) "A-channel data bits 0 through 15. DA15 is most significant data bit (MSB). DA0 is least significant data bit (LSB). Internal pulldown", 41 DA10 (in) "A-channel data bits 0 through 15. DA15 is most significant data bit (MSB). DA0 is least significant data bit (LSB). Internal pulldown", 42 DA9 (in) "A-channel data bits 0 through 15. DA15 is most significant data bit (MSB). DA0 is least significant data bit (LSB). Internal pulldown", 43 DA8 (in) "A-channel data bits 0 through 15. DA15 is most significant data bit (MSB). DA0 is least significant data bit (LSB). Internal pulldown", 48 DA7 (in) "A-channel data bits 0 through 15. DA15 is most significant data bit (MSB). DA0 is least significant data bit (LSB). Internal pulldown", 49 DA6 (in) "A-channel data bits 0 through 15. DA15 is most significant data bit (MSB). DA0 is least significant data bit (LSB). Internal pulldown", 50 DA5 (in) "A-channel data bits 0 through 15. DA15 is most significant data bit (MSB). DA0 is least significant data bit (LSB). Internal pulldown", 51 DA4 (in) "A-channel data bits 0 through 15. DA15 is most significant data bit (MSB). DA0 is least significant data bit (LSB). Internal pulldown", 52 DA3 (in) "A-channel data bits 0 through 15. DA15 is most significant data bit (MSB). DA0 is least significant data bit (LSB). Internal pulldown", 53 DA2 (in) "A-channel data bits 0 through 15. DA15 is most significant data bit (MSB). DA0 is least significant data bit (LSB). Internal pulldown", 54 DA1 (in) "A-channel data bits 0 through 15. DA15 is most significant data bit (MSB). DA0 is least significant data bit (LSB). Internal pulldown", 55 DA0 (LSB) (in) "A-channel data bits 0 through 15. DA15 is most significant data bit (MSB). DA0 is least significant data bit (LSB). Internal pulldown"
part B pins: 5 IOUTB1 (out) "B-channel DAC current output. Full scale when all input bits are set to 1", 6 IOUTB2 (out) "B-channel DAC complementary current output. Full scale when all input bits are set to 0", 71 DB0 (LSB) (in) "B-channel data bits 0 through 15. DB15 is most significant data bit (MSB). DB0 is least significant data bit (LSB). Internal pulldown Note: The order of the B data bus can be reversed by register rev_bbus.", 72 DB1 (in) "B-channel data bits 0 through 15. DB15 is most significant data bit (MSB). DB0 is least significant data bit (LSB). Internal pulldown Note: The order of the B data bus can be reversed by register rev_bbus.", 73 DB2 (in) "B-channel data bits 0 through 15. DB15 is most significant data bit (MSB). DB0 is least significant data bit (LSB). Internal pulldown Note: The order of the B data bus can be reversed by register rev_bbus.", 74 DB3 (in) "B-channel data bits 0 through 15. DB15 is most significant data bit (MSB). DB0 is least significant data bit (LSB). Internal pulldown Note: The order of the B data bus can be reversed by register rev_bbus.", 75 DB4 (in) "B-channel data bits 0 through 15. DB15 is most significant data bit (MSB). DB0 is least significant data bit (LSB). Internal pulldown Note: The order of the B data bus can be reversed by register rev_bbus.", 76 DB5 (in) "B-channel data bits 0 through 15. DB15 is most significant data bit (MSB). DB0 is least significant data bit (LSB). Internal pulldown Note: The order of the B data bus can be reversed by register rev_bbus.", 77 DB6 (in) "B-channel data bits 0 through 15. DB15 is most significant data bit (MSB). DB0 is least significant data bit (LSB). Internal pulldown Note: The order of the B data bus can be reversed by register rev_bbus.", 78 DB7 (in) "B-channel data bits 0 through 15. DB15 is most significant data bit (MSB). DB0 is least significant data bit (LSB). Internal pulldown Note: The order of the B data bus can be reversed by register rev_bbus.", 83 DB8 (in) "B-channel data bits 0 through 15. DB15 is most significant data bit (MSB). DB0 is least significant data bit (LSB). Internal pulldown Note: The order of the B data bus can be reversed by register rev_bbus.", 84 DB9 (in) "B-channel data bits 0 through 15. DB15 is most significant data bit (MSB). DB0 is least significant data bit (LSB). Internal pulldown Note: The order of the B data bus can be reversed by register rev_bbus.", 85 DB10 (in) "B-channel data bits 0 through 15. DB15 is most significant data bit (MSB). DB0 is least significant data bit (LSB). Internal pulldown Note: The order of the B data bus can be reversed by register rev_bbus.", 86 DB11 (in) "B-channel data bits 0 through 15. DB15 is most significant data bit (MSB). DB0 is least significant data bit (LSB). Internal pulldown Note: The order of the B data bus can be reversed by register rev_bbus.", 87 DB12 (in) "B-channel data bits 0 through 15. DB15 is most significant data bit (MSB). DB0 is least significant data bit (LSB). Internal pulldown Note: The order of the B data bus can be reversed by register rev_bbus.", 90 DB13 (in) "B-channel data bits 0 through 15. DB15 is most significant data bit (MSB). DB0 is least significant data bit (LSB). Internal pulldown Note: The order of the B data bus can be reversed by register rev_bbus.", 91 DB14 (in) "B-channel data bits 0 through 15. DB15 is most significant data bit (MSB). DB0 is least significant data bit (LSB). Internal pulldown Note: The order of the B data bus can be reversed by register rev_bbus.", 92 DB15 (MSB) (in) "B-channel data bits 0 through 15. DB15 is most significant data bit (MSB). DB0 is least significant data bit (LSB). Internal pulldown Note: The order of the B data bus can be reversed by register rev_bbus."
part C pins: 11 EXTIO (io) "Used as external reference input when internal reference is disabled (i.e., EXTLO connected to AVDD). Used as internal reference output when EXTLO = AGND, requires a 0.1-uF decoupling capacitor to AGND when used as reference (See Datasheet)", 13 BIASJ "Full-scale output current bias", 15 EXTLO "Internal reference ground. Connect to AVDD to disable the internal reference", 28 SDENB (in) "Active-low serial data enable, always an input to the DAC5686. Internal pulldown", 29 SCLK (in) "Serial interface clock. Internal pulldown", 30 SDIO (io) "Bidirectional serial-port data in the three-pin serial interface mode. Input-only serial data in the four-pin serial interface mode. Internal pulldown", 31 SDO (hiz) "High-impedance state (the pin is not used) in the three-pin serial interface mode. Serial-port output data in the four-pin serial interface mode.", 33 TXENABLE (in) "TxENABLE is used in interleaved mode. The rising edge of TxENABLE synchronizes the data of channels A and B. The first data after the rising edge of TxENABLE is treated as A data, while the next data is treated as B data and (See Datasheet)", 59 CLK1 (in) "External clock input; data clock input", 60 CLK1C (in) "Complementary external clock input; data clock input", 62 CLK2 (in) "External clock input; sample clock for the DAC (optional if PLL disabled)", 63 CLK2C (in) "Complementary external clock input; sample clock for the DAC (optional if PLL disabled)", 66 LPF "PLL loop filter connection. Can be left open or connected to GND if PLL is not used (PLLVDD = 0 V).", 70 PLLLOCK (out) "PLL lock status bit. In PLL clock mode, PLLLOCK is high when PLL is locked to the input clock. In external clock mode, PLLLOCK outputs the input rate clock.", 94 PHSTR (in) "The PHSTR pin has two functions. When the sync_phstr register is 0, a high on the PHSTR pin resets the NCO phase accumulator. When the sync_phstr register is 1, a PHSTR pin low-to-high transition sets the divided clock phase (See Datasheet)", 95 RESETB (in) "Resets the chip when low. Internal pullup", 96 SLEEP (in) "Asynchronous hardware power-down input. Active high. Internal pulldown", 97 TESTMODE "TESTMODE is DGND for the user", 98 QFLAG (in) "Used in the interleaved data input mode: When the qflag register bit is 1, the QFLAG pin is used as an input to identify the interleaved data sequence. QFLAG high identifies the data as channel B. Pin can be left open when (See Datasheet)"
part D pins: 1 AGND (power) "Analog ground return", 2 AVDD (power) "Analog supply voltage", 3 AVDD (power) "Analog supply voltage", 4 AGND (power) "Analog ground return", 7 AGND (power) "Analog ground return", 8 AVDD (power) "Analog supply voltage", 9 AGND (power) "Analog ground return", 10 AVDD (power) "Analog supply voltage", 12 AGND (power) "Analog ground return", 14 AVDD (power) "Analog supply voltage", 16 AVDD (power) "Analog supply voltage", 17 AGND (power) "Analog ground return", 18 AVDD (power) "Analog supply voltage", 19 AGND (power) "Analog ground return", 22 AGND (power) "Analog ground return", 23 AVDD (power) "Analog supply voltage", 24 AVDD (power) "Analog supply voltage", 25 AGND (power) "Analog ground return", 26 DVDD (power) "Digital supply voltage", 27 DGND (power) "Digital ground return", 32 DVDD (power) "Digital supply voltage", 37 DVDD (power) "Digital supply voltage", 38 DGND (power) "Digital ground return", 44 DVDD (power) "Digital supply voltage", 45 DGND (power) "Digital ground return", 46 IOVDD (power) "Digital I/O supply voltage", 47 IOGND (power) "Digital I/O ground return", 56 DVDD (power) "Digital supply voltage", 57 DGND (power) "Digital ground return", 58 CLKGND (power) "Ground return for internal clock buffer", 61 CLKVDD (power) "Internal clock buffer supply voltage", 64 CLKGND (power) "Ground return for internal clock buffer", 65 PLLGND (power) "Ground return for internal PLL", 67 PLLVDD (power) "PLL supply voltage. When PLLVDD is 0 V, the PLL is disabled.", 68 DVDD (power) "Digital supply voltage", 69 DGND (power) "Digital ground return", 79 IOGND (power) "Digital I/O ground return", 80 IOVDD (power) "Digital I/O supply voltage", 81 DGND (power) "Digital ground return", 82 DVDD (power) "Digital supply voltage", 88 DGND (power) "Digital ground return", 89 DVDD (power) "Digital supply voltage", 93 DGND (power) "Digital ground return", 99 DGND (power) "Digital ground return", 100 DVDD (power) "Digital supply voltage", 101 EP